# EAGLE library part PL2303-SSOP28 (library ic-PL2303HX-usb-to-serial-bridge)
The PL-2303 operates as a bridge between one USB port and one standard RS232 Serial port. Automatic handshake is supported at the Serial port. With these, a much higher baud rate can be achieved compared to the legacy UART controller.
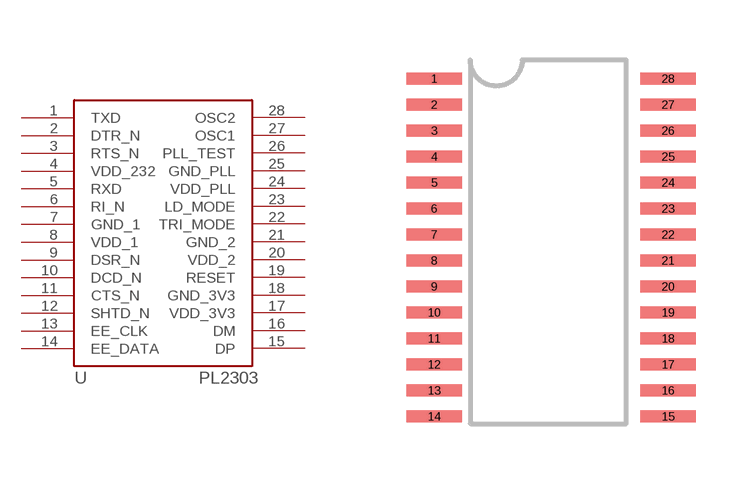
[diagram p0: symbol with the pads of PL2303-SSOP28; footprint PL2303-SSOP28]

Designator prefix -

## PL2303-SSOP28  [PL2303-SSOP28]
1  TXD
2  DTR_N
3  RTS_N
4  VDD_232
5  RXD
6  RI_N
7  GND_1
8  VDD_1
9  DSR_N
10  DCD_N
11  CTS_N
12  SHTD_N
13  EE_CLK
14  EE_DATA
15  DP
16  DM
17  VDD_3V3
18  GND_3V3
19  RESET
20  VDD_2
21  GND_2
22  TRI_MODE
23  LD_MODE
24  VDD_PLL
25  GND_PLL
26  PLL_TEST
27  OSC1
28  OSC2

## Footprint PL2303-SSOP28 (pad centres in mm)
The PL-2303 operates as a bridge between one USB port and one standard RS232 Serial port.
smd 1.397 x 0.305: 1 -2.855,4.084; 2 -2.855,3.434; 3 -2.855,2.784; 4 -2.855,2.134; 5 -2.855,1.483; 6 -2.855,0.833; 7 -2.855,0.183; 8 -2.855,-0.467; 9 -2.855,-1.118; 10 -2.855,-1.768; 11 -2.855,-2.418; 12 -2.855,-3.068; 13 -2.855,-3.719; 14 -2.855,-4.369; 15 2.997,-4.369; 16 2.997,-3.719; 17 2.997,-3.068; 18 2.997,-2.418; 19 2.997,-1.768; 20 2.997,-1.118; 21 2.997,-0.467; 22 2.997,0.183; 23 2.997,0.833; 24 2.997,1.483; 25 2.997,2.134; 26 2.997,2.784; 27 2.997,3.434; 28 2.997,4.084